# Altium footprint library SDR1806.PcbLib: 1 footprints
Each footprint in its own frame and in the unit in brackets; x right, y up, seen from the top. Pads: shape width x height; smd on the part's side, far side on the other; paste and mask are expansions set on the pad; w line width, h text height; cw(c..) or ccw(c..) is an arc to the next point about the centre after c.
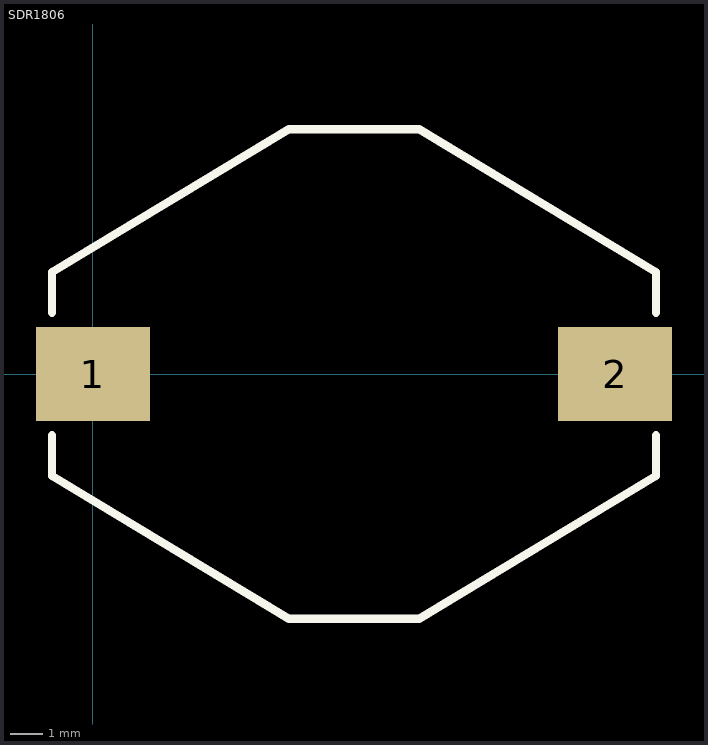
[diagram p0: the footprint, top view; thin cyan lines are the x and y axes]

## SDR1806 [mil]
pads (2):
  rect 140x115 smd: 1(0,0) 2(640,0)
Top Overlay:
  lines w10: -50,-75 -50,-125 240,-300 400,-300 690,-125 690,-75 ; -50,75 -50,125 240,300 400,300 690,125 690,75
3D body: height 258.27, standoff 0, extent -40,-290 680.47,288.38